# EAGLE library part PAM8403BRKOUT (library Unclear)
PAM8403 Amplifier Breakout Board
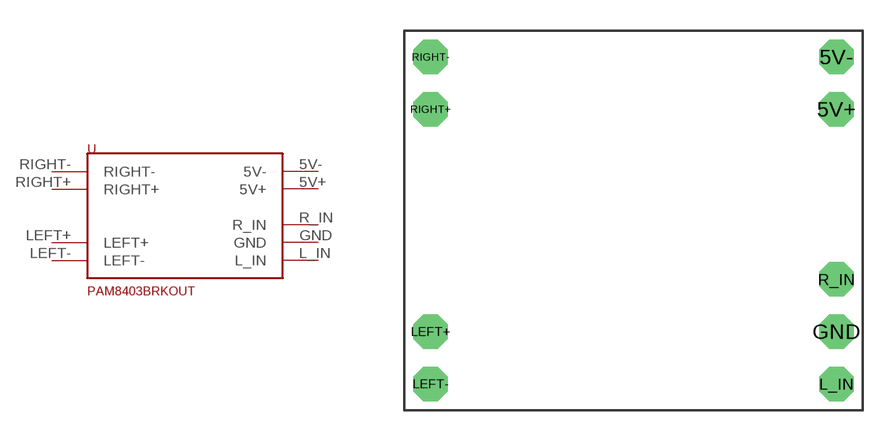
[diagram p0: symbol with the pads of PAM8403BRKOUT; footprint PAM8403BRKOUT]

Designator prefix -

## PAM8403BRKOUT (UNIT_PRICE: 0.99; VENDOR_ID: eBay; VENDOR_SKU: 649443176)  [PAM8403BRKOUT]
5V+  5V+
5V-  5V-
GND  GND
L_IN  L_IN
LEFT+  LEFT+
LEFT-  LEFT-
R_IN  R_IN
RIGHT+  RIGHT+
RIGHT-  RIGHT-

## Footprint PAM8403BRKOUT (pad centres in mm)
PAM8403 Amplifier Breakout Board
drill 1 pad 1.676 octagon: 5V+ 20.955,14.605; 5V- 20.955,17.145; GND 20.955,3.81; L_IN 20.955,1.27; LEFT+ 1.27,3.81; LEFT- 1.27,1.27; R_IN 20.955,6.35; RIGHT+ 1.27,14.605; RIGHT- 1.27,17.145